# Altium footprint library 28Pins_PCB_Lib.PcbLib: 26 footprints (part 2 of 2)
Each footprint in its own frame and in the unit in brackets; x right, y up, seen from the top. Pads: shape width x height; smd on the part's side, far side on the other; paste and mask are expansions set on the pad; w line width, h text height; cw(c..) or ccw(c..) is an arc to the next point about the centre after c.
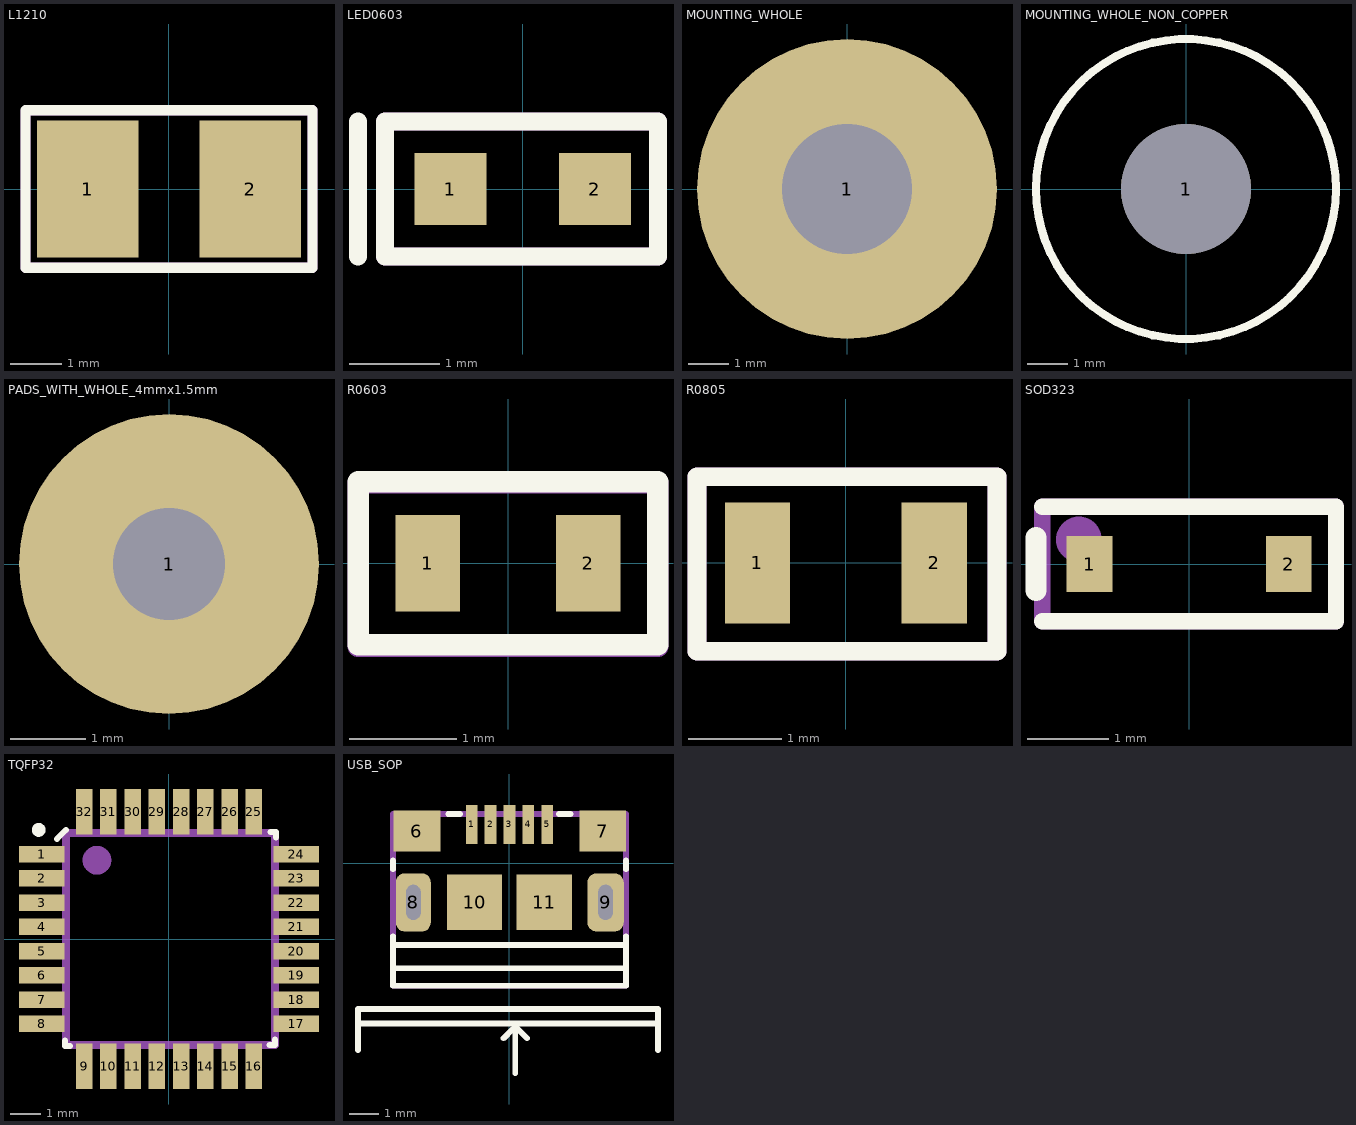
[diagram p1: the footprints below, top view; thin cyan lines are the x and y axes]

## L1210 [mm]
pads (2):
  rect 2x2.7 smd: 1(-1.6,0) 2(1.6,0)
Top Overlay:
  lines w0.2: -2.825,-1.55 2.825,-1.55 2.825,1.55 -2.825,1.55 -2.825,-1.55
Mechanical 29:
  lines w0.2: -2.825,-1.55 2.825,-1.55 2.825,1.55 -2.8,1.55 -2.825,1.525 -2.825,-1.55
  text ".Designator" at -0.825,-0.2 h0.8
3D body: height 2.7, standoff 0, extent -1.4,-1.25 1.4,1.25
3D body: height 2.7, standoff 0, extent 1.4,-1.25 1.6,1.25
3D body: height 2.7, standoff 0, extent -1.6,-1.25 -1.4,1.25

## LED0603 [mm]
pads (2):
  rect 0.8x0.8 smd: 1(-0.8,0) 2(0.8,0)
Top Overlay:
  lines w0.2: -1.825,-0.75 -1.825,0.75 ; -1.525,-0.75 1.5,-0.75 1.5,0.75 -1.525,0.75 -1.525,-0.75
Mechanical 29:
  lines w0.2: -1.525,-0.75 -1.525,0.75 1.5,0.75 1.5,-0.75 -1.525,-0.75
  text ".Designator" at -0.025,-0.075 h0.4
3D body "LED SMD 0603.step": height 0.65, standoff 0, extent -0.825,-0.4 0.875,0.4
3D body: height 0.66, standoff 0.5, extent -0.25,-0.137 0.25,0.138

## MOUNTING_WHOLE [mm]
pads (1):
  round 7.4 hole 3.2: 1(0,0)

## MOUNTING_WHOLE_NON_COPPER [mm]
pads (1):
  round 3.2 hole 3.2 unplated: 1(0,0)
Top Overlay:
  circle w0.2: c0,0 r3.7

## PADS_WITH_WHOLE_4mmx1.5mm [mm]
pads (1):
  round 4 hole 1.5: 1(0,0)

## R0603 [mm]
pads (2):
  rect 0.6x0.9 smd: 1(-0.75,0) 2(0.75,0)
Top Overlay:
  lines w0.2: -1.397,-0.762 -1.397,0.762 1.397,0.762 1.397,-0.762 -1.397,-0.762
Mechanical 29:
  lines w0.2: -1.4,-0.775 -1.4,0.75 1.4,0.75 1.4,-0.775 -1.4,-0.775
  text ".Designator" at -0.15,-0.125 h0.6
3D body "R0603.step": height 0.85, standoff 0.01, extent -0.8,-0.4 0.8,0.4

## R0805 [mm]
pads (2):
  rect 0.7x1.3 smd: 1(-0.95,0) 2(0.95,0)
Top Overlay:
  lines w0.2: -1.6,-0.95 1.625,-0.95 1.625,0.925 -1.6,0.925 -1.6,-0.95
Mechanical 29:
  lines w0.2: -1.6,-0.95 1.625,-0.95 1.625,0.925 -1.6,0.925 -1.6,-0.95
  text ".Designator" at -0.05,-0.05 h0.5
3D body "User Library-Chip Resistor2.step": height 0.71, standoff 0.01, extent -1,-0.6 1,0.6

## SOD323 [mil]
pads (2):
  rect 22x27 smd: 1(-48,0) 2(48,0)
Top Overlay:
  lines w7.87: -70.87,-27.56 70.87,-27.56 70.87,27.56 -70.87,27.56
  lines w10.24: -73.82,-12.8 -73.82,12.8
Mechanical 29:
  circle w20: c-53.15,11.81 r0.98
  lines w7.87: -70.87,-27.56 -70.87,27.56 70.87,27.56 70.87,-27.56 -70.87,-27.56
  text ".Designator" at -6.89,-6.89 h23.62
3D body "SOD323.step": height 35.43, standoff -3.54, extent -48.23,-24.61 50.2,24.61

## TQFP32 [mm]
pads (32):
  rect 1.5x0.55 smd mask+0.06: 1(-4.2,2.8) 2(-4.2,2) 3(-4.2,1.2) 4(-4.2,0.4) 5(-4.2,-0.4) 6(-4.2,-1.2) 7(-4.2,-2) 8(-4.2,-2.8) 17(4.2,-2.8) 18(4.2,-2) 19(4.2,-1.2) 20(4.2,-0.4) 21(4.2,0.4) 22(4.2,1.2) 23(4.2,2) 24(4.2,2.8)
  rect 0.55x1.5 smd mask+0.06: 9(-2.8,-4.2) 10(-2,-4.2) 11(-1.2,-4.2) 12(-0.4,-4.2) 13(0.4,-4.2) 14(1.2,-4.2) 15(2,-4.2) 16(2.8,-4.2) 25(2.8,4.2) 26(2,4.2) 27(1.2,4.2) 28(0.4,4.2) 29(-0.4,4.2) 30(-1.2,4.2) 31(-2,4.2) 32(-2.8,4.2)
Top Overlay:
  circle w0.254: c-4.3,3.6 r0.1
  lines w0.2: -3.7,3.3 -3.4,3.6 ; -3.425,-3.35 -3.425,-3.525 -3.275,-3.525 ; 3.325,-3.5 3.5,-3.5 3.5,-3.325 ; 3.35,3.525 3.525,3.525 3.525,3.35
Mechanical 29:
  circle w0.5: c-2.376,2.6 r0.224
  lines w0.254: -3.4,-3.5 -3.4,3.5 3.5,3.5 3.5,-3.5 -3.4,-3.5
  text ".Designator" at -0.3,-0.1 h1.5
3D body "User Library-TQFP32-1.step": height 1.1, standoff 0, extent -4.509,-4.509 4.509,4.509

## USB_SOP [mm]
pads (11):
  rect 0.4x1.35 smd mask+0.05: 1(-1.3,1.338) 2(-0.65,1.338) 3(0,1.338) 4(0.65,1.338) 5(1.3,1.338)
  rect 1.6x1.4 smd: 6(-3.175,1.112) 7(3.2,1.112)
  rrect50% 1.2x2 hole 0.5 slot 1.2 at 90 deg: 8(-3.3,-1.338)
  rrect50% 1.25x2 hole 0.5 slot 1.2 at 90 deg: 9(3.3,-1.338)
  rect 1.9x1.9 smd: 10(-1.2,-1.338) 11(1.2,-1.338)
Top Overlay:
  lines w0.2: -5.2,-6.4 -5.2,-5.5 ; -4,-3.6 4,-3.6 ; -4,-2.8 4,-2.8 ; -4,-2.5 -4,-4.2 4,-4.2 4,-2.5 ; -4,-0.2 -4,0.1 ; -2.1,1.7 -1.7,1.7 ; -0.2,-6 0.1,-5.7 0.2,-5.7 0.3,-5.7 0.6,-6 ; 0.2,-7.2 0.2,-5.5 ; 1.7,1.7 2.1,1.7 ; 4,-0.2 4,0.1 ; 5.1,-6.4 5.1,-5.5 ; -5.2,-5.5 5.1,-5.5 ; -5.2,-5.5 -5.2,-5 5.1,-5 5.1,-5.5
Mechanical 29:
  lines w0.2: -4,-4.2 -4,1.7 4,1.7 4,-4.2 -4,-4.2
  text ".Designator" at -1.1,-1.6 h1.2
3D body "10118193-0001lfc.stp": height 2.88, standoff -0.92, extent -3.928,-4.146 3.928,1.637